# EAGLE library part TPA3106D1 (library ct-bot)
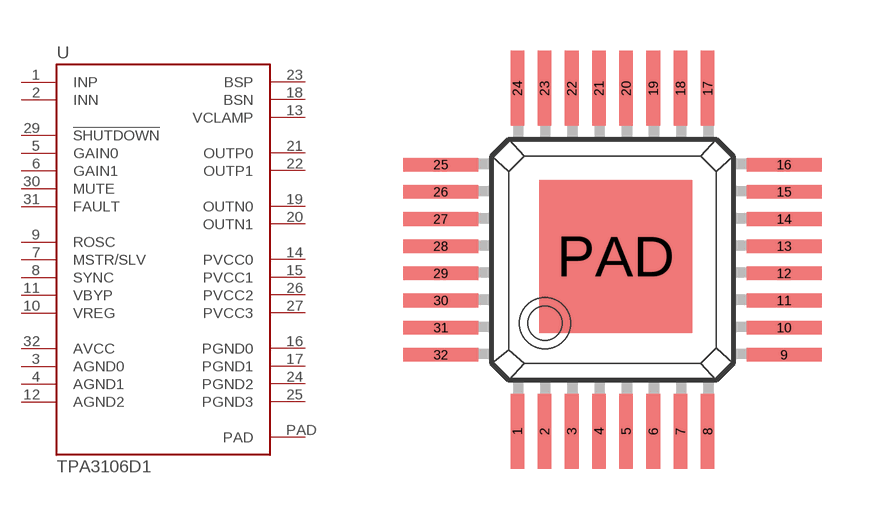
[diagram p5: symbol with the pads of HTQFP32; footprint HTQFP32]

Designator prefix -

## TPA3106D1  [HTQFP32]
1  INP  in
2  INN  in
3  AGND0  pwr
4  AGND1  pwr
5  GAIN0  in
6  GAIN1  in
7  MSTR/SLV  in
8  SYNC
9  ROSC  in
10  VREG  out
11  VBYP  out
12  AGND2  pwr
13  VCLAMP  pwr
14  PVCC0  pwr
15  PVCC1  pwr
16  PGND0  pwr
17  PGND1  pwr
18  BSN  pwr
19  OUTN0  out
20  OUTN1  out
21  OUTP0  out
22  OUTP1  out
23  BSP  pwr
24  PGND2  pwr
25  PGND3  pwr
26  PVCC2  pwr
27  PVCC3  pwr
29  !SHUTDOWN  in
30  MUTE  in
31  FAULT  in
32  AVCC  pwr
PAD  PAD  pwr

## Footprint HTQFP32 (pad centres in mm)
smd 0.4 x 2.2: 1 -2.9,-5.15; 2 -2.1,-5.15; 3 -1.3,-5.15; 4 -0.5,-5.15; 5 0.3,-5.15; 6 1.1,-5.15; 7 1.9,-5.15; 8 2.7,-5.15; 17 2.7,4.95; 18 1.9,4.95; 19 1.1,4.95; 20 0.3,4.95; 21 -0.5,4.95; 22 -1.3,4.95; 23 -2.1,4.95; 24 -2.9,4.95
smd 2.2 x 0.4: 9 4.95,-2.9; 10 4.95,-2.1; 11 4.95,-1.3; 12 4.95,-0.5; 13 4.95,0.3; 14 4.95,1.1; 15 4.95,1.9; 16 4.95,2.7; 25 -5.15,2.7; 26 -5.15,1.9; 27 -5.15,1.1; 28 -5.15,0.3; 29 -5.15,-0.5; 30 -5.15,-1.3; 31 -5.15,-2.1; 32 -5.15,-2.9
smd 4.5 x 4.5: PAD 0,0